# Altium schematic symbol library MCU_ST_STM32MP1.SchLib: 48 symbols (part 5 of 5)
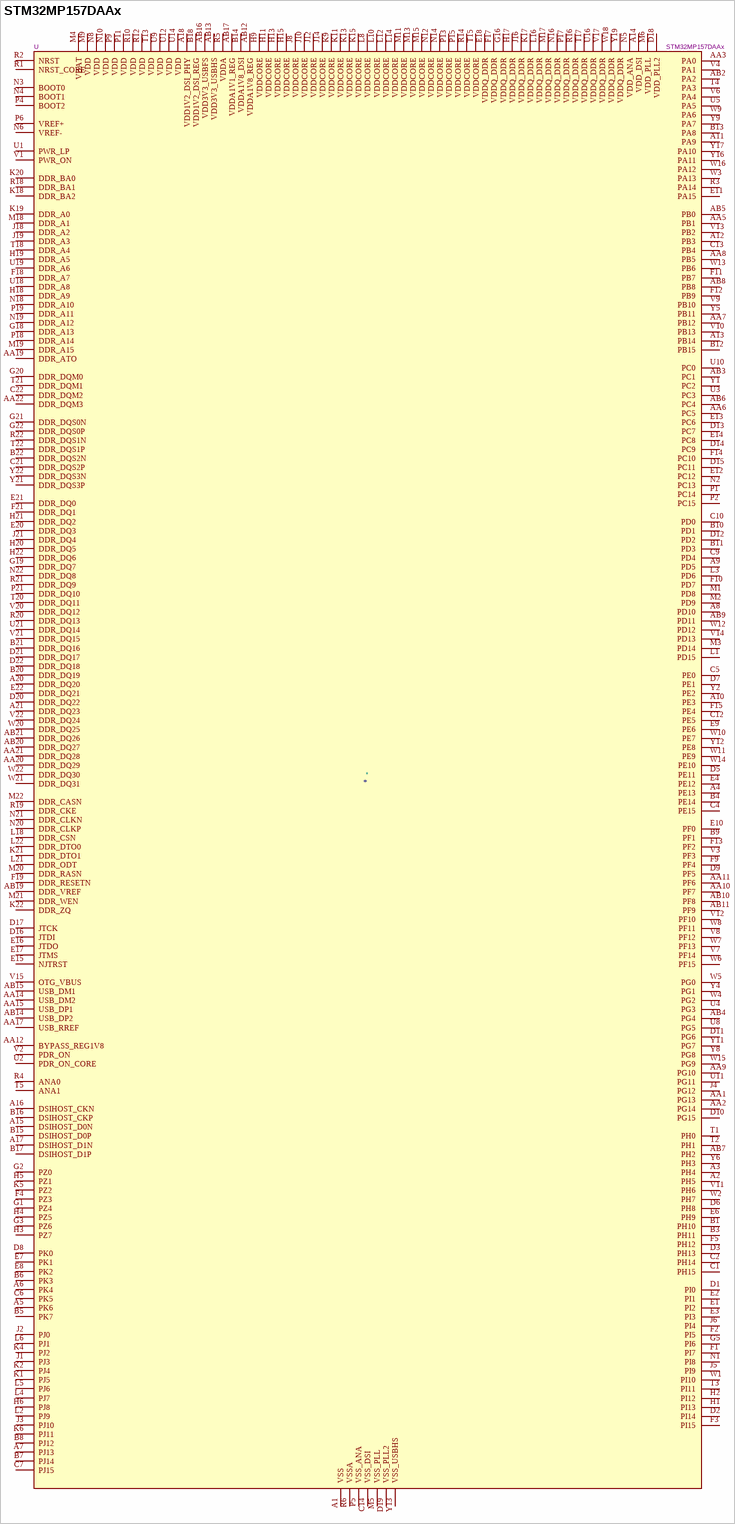
[diagram p39: symbol STM32MP157DAAx]

## STM32MP157DAAx
designator *  value STM32MP157DAAx  Reference: U
ki_keywords: Arm Cortex-A7 STM32MP1 STM32MP157; ki_description: STMicroelectronics Arm Cortex-A7 MCU, 0KB flash, 708KB RAM, 176 GPIO, LFBGA448; ki_fp_filters: *LFBGA*18x18mm*Layout22x22*P0.8mm*; Footprint: Package_BGA:ST_LFBGA-448_18x18mm_Layout22x22_P0.8mm; Datasheet: https://www.st.com/resource/en/datasheet/stm32mp157d.pdf
pins: A1 VSS, A2 PH5, A3 PH4, A4 PE13, A5 PK6, A6 PK4, A7 PJ13, A8 PD10, A9 PD5, A10 PE3, A11 PA9, A12 PB3, A13 PB14, A14 VDD_DSI, A15 DSIHOST_D0N, A16 DSIHOST_CKN, A17 DSIHOST_D1N, A18 VDD1V2_DSI_PHY, A19 VSS hidden, A20 DDR_DQ20, A21 DDR_DQ23, A22 VSS hidden, AA1 PG13, AA2 PG14, AA3 PA0, AA4 VSS hidden, AA5 PB1, AA6 PC5, AA7 PB12, AA8 PB5, AA9 PG10, AA10 PF7, AA11 PF6, AA12 BYPASS_REG1V8, AA13 VSS_USBHS hidden, AA14 USB_DM2, AA15 USB_DP1, AA16 VSS_USBHS hidden, AA17 USB_RREF, AA18 VSS hidden, AA19 DDR_ATO, AA20 DDR_DQ29, AA21 DDR_DQ28, AA22 DDR_DQM3, AB1 VSS hidden, AB2 PA2, AB3 PC1, AB4 PG4, AB5 PB0, AB6 PC4, AB7 PH2, AB8 PB8, AB9 PD11, AB10 PF8, AB11 PF9, AB12 VDDA1V8_REG, AB13 VDD3V3_USBHS, AB14 USB_DP2, AB15 USB_DM1, AB16 VDD3V3_USBFS, AB17 VDDA1V1_REG, AB18 VSS hidden, AB19 DDR_VREF, AB20 DDR_DQ27, AB21 DDR_DQ26, AB22 VSS hidden, B1 PH10, B2 VSS hidden, B3 PH11, B4 PE14, B5 PK7, B6 PK3, B7 PJ14, B8 PJ12, B9 PF1, B10 PD1, B11 PD3, B12 PB15, B13 PA8, B14 VDDA1V8_DSI, B15 DSIHOST_D0P, B16 DSIHOST_CKP, B17 DSIHOST_D1P, B18 VDD1V2_DSI_REG, B19 VSS hidden, B20 DDR_DQ19, B21 DDR_DQ16, B22 DDR_DQS2N, C1 PH15, C2 PH14, C3 VSS hidden, C4 PE15, C5 PE0, C6 PK5, C7 PJ15, C8 VSS hidden, C9 PD4, C10 PD0, C11 VSS hidden, C12 PE5, C13 PB4, C14 VSS_DSI, C15 VSS_DSI hidden, C16 VSS_DSI hidden, C17 VSS_DSI hidden, C18 VSS_DSI hidden, C19 VSS hidden, C20 VSS hidden, C21 DDR_DQS2P, C22 DDR_DQM2, D1 PI0, D2 PI14, D3 PH13, D4 VSS hidden, D5 PE11, D6 PH8, D7 PE1, D8 PK0, D9 PF5, D10 PG15, D11 PG6, D12 PD2, D13 PC7, D14 PC9, D15 PC11, D16 JTDI, D17 JTCK, D18 VDD_PLL2, D19 VSS_PLL2, D20 DDR_DQ22, D21 DDR_DQ17, D22 DDR_DQ18, E1 PI2, E2 PI1, E3 PI3, E4 PE12, E5 VSS hidden, E6 PH9, E7 PK1, E8 PK2, E9 PE6, E10 PF0, E11 PA15, E12 PC12, E13 PC6, E14 PC8, E15 NJTRST, E16 JTDO, E17 JTMS, E18 VDDQ_DDR, E19 VSS hidden, E20 DDR_DQ3, E21 DDR_DQ0, E22 DDR_DQ21, F1 PI7, F2 PI5, F3 PI15, F4 PZ3, F5 PH12, F6 VSS hidden, F7 VSS hidden, F8 VSS hidden, F9 PF4, F10 PD7, F11 PB7, F12 PB9, F13 PF2, F14 PC10, F15 PE4, F16 VSS hidden, F17 VDDQ_DDR, F18 DDR_A7, F19 DDR_RESETN, F20 VSS hidden, F21 DDR_DQ1, G1 PZ4, G2 PZ0, G3 PZ6, G4 VSS hidden, G5 PI6, G6 VSS hidden, G8 VSS hidden, G10 VSS hidden, G12 VSS hidden, G14 VSS hidden, G16 VDDQ_DDR, G17 VSS hidden, G18 DDR_A13, G19 DDR_DQ7, G20 DDR_DQM0, G21 DDR_DQS0N, G22 DDR_DQS0P, H1 PI13, H2 PI12, H3 PZ7, H4 PZ5, H5 PZ1, H6 PJ8, H7 VSS hidden, H9 VDDCORE, H11 VDDCORE, H13 VDDCORE, H15 VDDCORE, H17 VDDQ_DDR, H18 DDR_A9, H19 DDR_A5, H20 DDR_DQ5, H21 DDR_DQ2, H22 DDR_DQ6, J1 PJ3, J2 PJ0, J3 PJ10, J4 PG12, J5 PI9, J6 PI4, J8 VDDCORE, J9 VSS hidden, J10 VDDCORE, J11 VSS hidden, J12 VDDCORE, J13 VSS hidden, J14 VDDCORE, J16 VDDQ_DDR, J17 VSS hidden, J18 DDR_A2, J19 DDR_A3, J20 VSS hidden, J21 DDR_DQ4, K1 PJ5, K2 PJ4, K3 VSS hidden, K4 PJ2, K5 PZ2, K6 PJ11, K7 VSS hidden, K9 VDDCORE, K10 VSS hidden, K11 VDDCORE, K12 VSS hidden, K13 VDDCORE, K14 VSS hidden, K15 VDDCORE, K17 VDDQ_DDR, K18 DDR_BA2, K19 DDR_A0, K20 DDR_BA0, K21 DDR_DTO1, K22 DDR_ZQ, L1 PD15, L2 PJ9, L3 PD6, L4 PJ7, L5 PJ6, L6 PJ1, L8 VDDCORE, L9 VSS hidden, L10 VDDCORE, L11 VSS hidden, L12 VDDCORE, L13 VSS hidden, L14 VDDCORE, L16 VDDQ_DDR, L17 VSS hidden, L18 DDR_CSN, L19 VSS hidden, L20 VSS hidden, L21 DDR_ODT, L22 DDR_DTO0, M1 PD8, M2 PD9, M3 PD14, M4 VBAT, M5 VSS_PLL, M6 VDD_PLL, M7 VSS hidden, M9 VDD, M10 VSS hidden, M11 VDDCORE, M12 VSS hidden, M13 VDDCORE, M14 VSS hidden, M15 VDDCORE, M17 VDDQ_DDR, M18 DDR_A1, M19 DDR_A15, M20 DDR_RASN, M21 DDR_WEN, M22 DDR_CASN, N1 PI8, N2 PC13, N3 BOOT0, N4 BOOT1, N5 VDD_ANA, N6 VREF-, N8 VDD, N9 VSS hidden, N10 VDD, N11 VSS hidden, N12 VDDCORE, N13 VSS hidden, N14 VDDCORE, N16 VDDQ_DDR, N17 VSS hidden, N18 DDR_A10, N19 DDR_A12, N20 DDR_CLKP, N21 DDR_CLKN, N22 DDR_DQ8, P1 PC14, P2 PC15, P3 VSS hidden, P4 BOOT2, P5 VSS_ANA, P6 VREF+, P7 VSS hidden, P9 VDD, P10 VSS hidden, P11 VDD, P12 VSS hidden, P13 VDDCORE, P14 VSS hidden, P15 VDDCORE, P17 VDDQ_DDR, P18 DDR_A14, P19 DDR_A11, P20 VSS hidden, P21 DDR_DQ10, R1 NRST_CORE, R2 NRST, R3 PA14, R4 ANA0, R5 VDDA, R6 VSSA, R8 VSS hidden, R10 VDD, R12 VDD, R14 VDDCORE, R16 VDDQ_DDR, R17 VSS hidden, R18 DDR_BA1, R19 DDR_CKE, R20 DDR_DQ13, R21 DDR_DQ9, R22 DDR_DQS1N, T1 PH0, T2 PH1, T3 PI11, T4 PA3, T5 ANA1, T6 VSSA hidden, T7 VSS hidden, T9 VSS hidden, T11 VSS hidden, T13 VDD, T15 VDDCORE, T17 VDDQ_DDR, T18 DDR_A4, T19 VSS hidden, T20 DDR_DQ11, T21 DDR_DQM1, T22 DDR_DQS1P, U1 PWR_LP, U2 PDR_ON_CORE, U3 PC3, U4 PG3, U5 PA5, U6 VSSA hidden, U7 VSS hidden, U8 PG5, U9 VDD, U10 PC0, U11 PG11, U12 VDD, U13 VSS hidden, U14 VDD, U15 VSS hidden, U16 VDDQ_DDR, U17 VSS hidden, U18 DDR_A8, U19 DDR_A6, U20 VSS hidden, U21 DDR_DQ14, V1 PWR_ON, V2 PDR_ON, V3 PF3, V4 PA1, V5 VSS hidden, V6 PA4, V7 PF14, V8 PF12, V9 PB10, V10 PB13, V11 PH6, V12 PF10, V13 PB2, V14 PD13, V15 OTG_VBUS, V16 VSS hidden, V17 VDDQ_DDR, V18 VSS hidden, V19 VSS hidden, V20 DDR_DQ12, V21 DDR_DQ15, V22 DDR_DQ24, W1 PI10, W2 PH7, W3 PA13, W4 PG2, W5 PG0, W6 PF15, W7 PF13, W8 PF11, W9 PA6, W10 PE7, W11 PE9, W12 PD12, W13 PB6, W14 PE10, W15 PG9, W16 PA12, W17 VSS hidden, W18 VDDQ_DDR, W19 VSS hidden, W20 DDR_DQ25, W21 DDR_DQ31, W22 DDR_DQ30, Y1 PC2, Y2 PE2, Y3 VSS hidden, Y4 PG1, Y5 PB11, Y6 PH3, Y7 VSS hidden, Y8 PG8, Y9 PA7, Y10 VSS hidden, Y11 PG7, Y12 PE8, Y13 VSS_USBHS, Y14 VSS_USBHS hidden, Y15 VSS_USBHS hidden, Y16 PA11, Y17 PA10, Y18 VSS hidden, Y19 VDDQ_DDR, Y20 VSS hidden, Y21 DDR_DQS3P, Y22 DDR_DQS3N

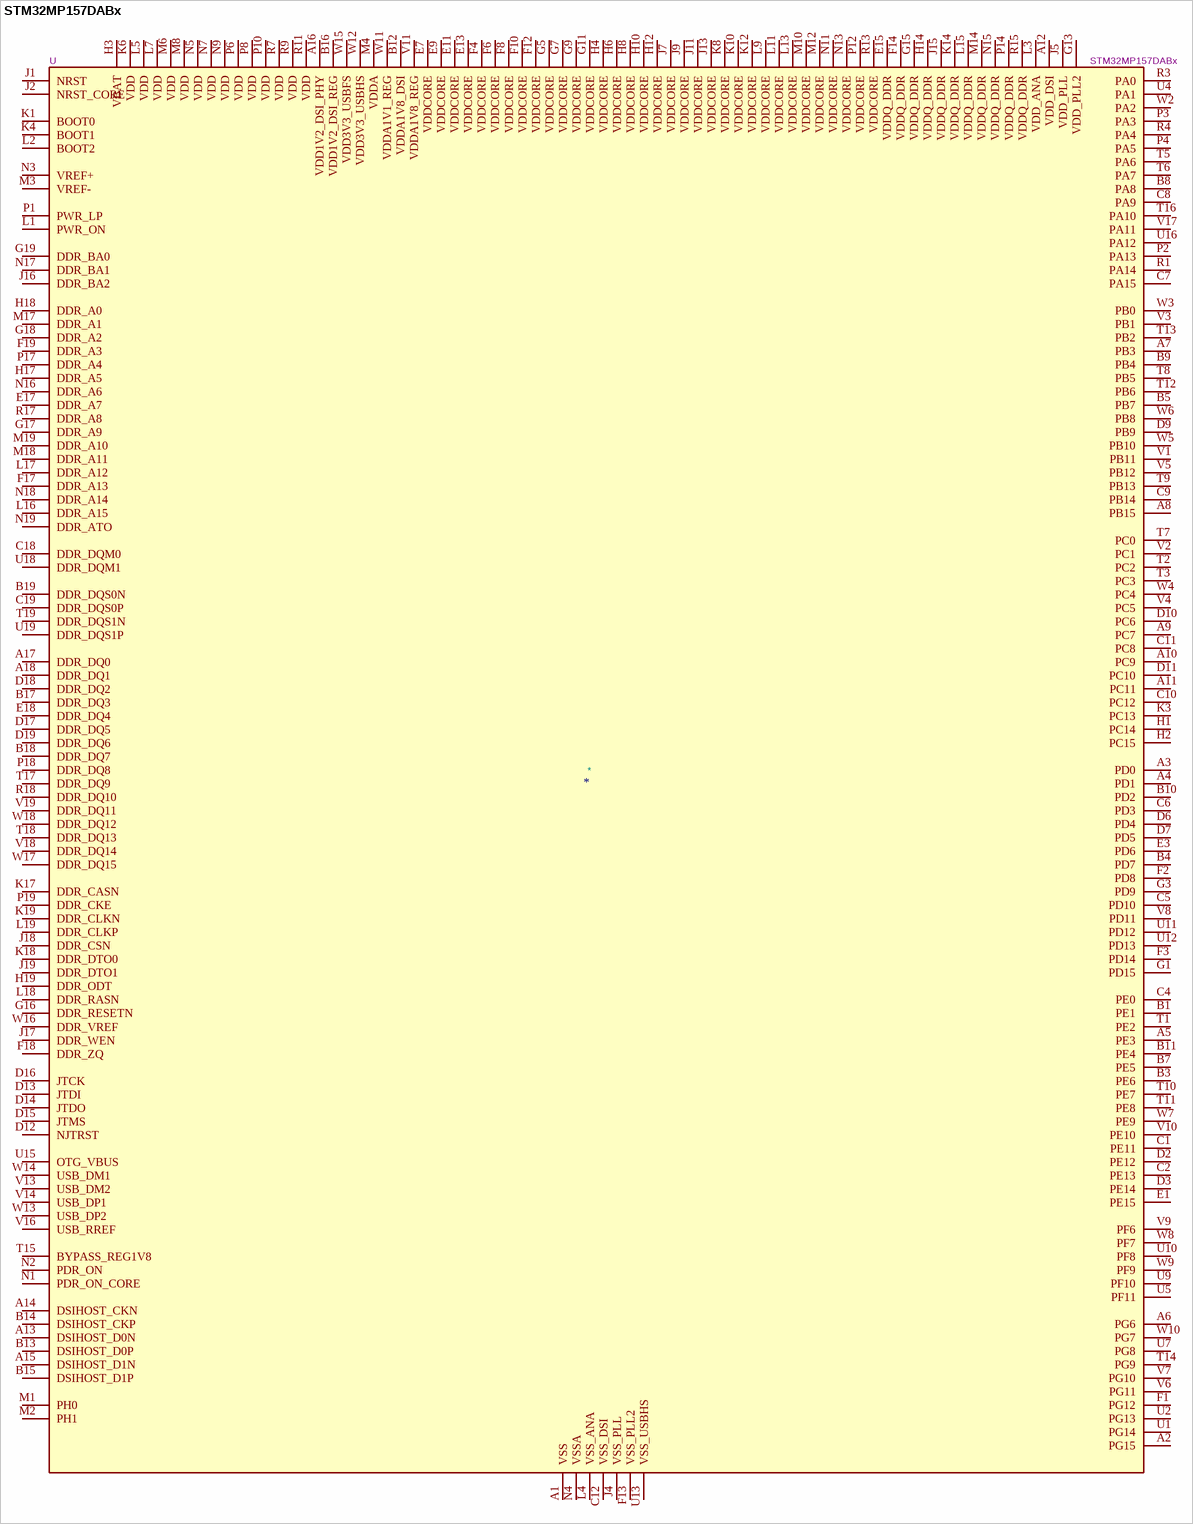
[diagram p31: symbol STM32MP157DABx]

## STM32MP157DABx
designator *  value STM32MP157DABx  Reference: U
ki_keywords: Arm Cortex-A7 STM32MP1 STM32MP157; ki_description: STMicroelectronics Arm Cortex-A7 MCU, 0KB flash, 708KB RAM, 98 GPIO, LFBGA354; ki_fp_filters: *LFBGA*16x16mm*Layout19x19*P0.8mm*; Footprint: Package_BGA:ST_LFBGA-354_16x16mm_Layout19x19_P0.8mm; Datasheet: https://www.st.com/resource/en/datasheet/stm32mp157d.pdf
pins: A1 VSS, A2 PG15, A3 PD0, A4 PD1, A5 PE3, A6 PG6, A7 PB3, A8 PB15, A9 PC7, A10 PC9, A11 PC11, A12 VDD_DSI, A13 DSIHOST_D0N, A14 DSIHOST_CKN, A15 DSIHOST_D1N, A16 VDD1V2_DSI_PHY, A17 DDR_DQ0, A18 DDR_DQ1, A19 VSS hidden, B1 PE1, B2 VSS hidden, B3 PE6, B4 PD7, B5 PB7, B6 VSS hidden, B7 PE5, B8 PA8, B9 PB4, B10 PD2, B11 PE4, B12 VDDA1V8_DSI, B13 DSIHOST_D0P, B14 DSIHOST_CKP, B15 DSIHOST_D1P, B16 VDD1V2_DSI_REG, B17 DDR_DQ3, B18 DDR_DQ7, B19 DDR_DQS0N, C1 PE11, C2 PE13, C3 VSS hidden, C4 PE0, C5 PD10, C6 PD3, C7 PA15, C8 PA9, C9 PB14, C10 PC12, C11 PC8, C12 VSS_DSI, C13 VSS_DSI hidden, C14 VSS_DSI hidden, C15 VSS_DSI hidden, C16 VSS_DSI hidden, C17 VSS hidden, C18 DDR_DQM0, C19 DDR_DQS0P, D1 VSS hidden, D2 PE12, D3 PE14, D4 VSS hidden, D5 VSS hidden, D6 PD4, D7 PD5, D8 VSS hidden, D9 PB9, D10 PC6, D11 PC10, D12 NJTRST, D13 JTDI, D14 JTDO, D15 JTMS, D16 JTCK, D17 DDR_DQ5, D18 DDR_DQ2, D19 DDR_DQ6, E1 PE15, E2 VSS hidden, E3 PD6, E4 VSS hidden, E5 VSS hidden, E6 VSS hidden, E7 VDDCORE, E8 VSS hidden, E9 VDDCORE, E10 VSS hidden, E11 VDDCORE, E12 VSS hidden, E13 VDDCORE, E14 VSS hidden, E15 VDDQ_DDR, E16 VSS hidden, E17 DDR_A7, E18 DDR_DQ4, F1 PG12, F2 PD8, F3 PD14, F4 VDDCORE, F5 VSS hidden, F6 VDDCORE, F7 VSS hidden, F8 VDDCORE, F9 VSS hidden, F10 VDDCORE, F11 VSS hidden, F12 VDDCORE, F13 VSS_PLL2, F14 VDDQ_DDR, F15 VSS hidden, F17 DDR_A13, F18 DDR_ZQ, F19 DDR_A3, G1 PD15, G2 VSS hidden, G3 PD9, G4 VSS hidden, G5 VDDCORE, G6 VSS hidden, G7 VDDCORE, G8 VSS hidden, G9 VDDCORE, G10 VSS hidden, G11 VDDCORE, G12 VSS hidden, G13 VDD_PLL2, G14 VSS hidden, G15 VDDQ_DDR, G16 DDR_RESETN, G17 DDR_A9, G18 DDR_A2, G19 DDR_BA0, H1 PC14, H2 PC15, H3 VBAT, H4 VDDCORE, H5 VSS hidden, H6 VDDCORE, H7 VSS hidden, H8 VDDCORE, H9 VSS hidden, H10 VDDCORE, H11 VSS hidden, H12 VDDCORE, H13 VSS hidden, H14 VDDQ_DDR, H15 VSS hidden, H17 DDR_A5, H18 DDR_A0, H19 DDR_ODT, J1 NRST, J2 NRST_CORE, J3 VSS hidden, J4 VSS_PLL, J5 VDD_PLL, J6 VSS hidden, J7 VDDCORE, J8 VSS hidden, J9 VDDCORE, J10 VSS hidden, J11 VDDCORE, J12 VSS hidden, J13 VDDCORE, J14 VSS hidden, J15 VDDQ_DDR, J16 DDR_BA2, J17 DDR_WEN, J18 DDR_CSN, J19 DDR_DTO1, K1 BOOT0, K2 VSS hidden, K3 PC13, K4 BOOT1, K5 VSS hidden, K6 VDD, K7 VSS hidden, K8 VDDCORE, K9 VSS hidden, K10 VDDCORE, K11 VSS hidden, K12 VDDCORE, K13 VSS hidden, K14 VDDQ_DDR, K15 VSS hidden, K17 DDR_CASN, K18 DDR_DTO0, K19 DDR_CLKN, L1 PWR_ON, L2 BOOT2, L3 VDD_ANA, L4 VSS_ANA, L5 VDD, L6 VSS hidden, L7 VDD, L8 VSS hidden, L9 VDDCORE, L10 VSS hidden, L11 VDDCORE, L12 VSS hidden, L13 VDDCORE, L14 VSS hidden, L15 VDDQ_DDR, L16 DDR_A15, L17 DDR_A12, L18 DDR_RASN, L19 DDR_CLKP, M1 PH0, M2 PH1, M3 VREF-, M4 VDDA, M5 VSS hidden, M6 VDD, M7 VSS hidden, M8 VDD, M9 VSS hidden, M10 VDDCORE, M11 VSS hidden, M12 VDDCORE, M13 VSS hidden, M14 VDDQ_DDR, M15 VSS hidden, M17 DDR_A1, M18 DDR_A11, M19 DDR_A10, N1 PDR_ON_CORE, N2 PDR_ON, N3 VREF+, N4 VSSA, N5 VDD, N6 VSS hidden, N7 VDD, N8 VSS hidden, N9 VDD, N10 VSS hidden, N11 VDDCORE, N12 VSS hidden, N13 VDDCORE, N14 VSS hidden, N15 VDDQ_DDR, N16 DDR_A6, N17 DDR_BA1, N18 DDR_A14, N19 DDR_ATO, P1 PWR_LP, P2 PA13, P3 PA3, P4 PA5, P5 VSSA hidden, P6 VDD, P7 VSS hidden, P8 VDD, P9 VSS hidden, P10 VDD, P11 VSS hidden, P12 VDDCORE, P13 VSS hidden, P14 VDDQ_DDR, P15 VSS hidden, P17 DDR_A4, P18 DDR_DQ8, P19 DDR_CKE, R1 PA14, R2 VSS hidden, R3 PA0, R4 PA4, R5 VSSA hidden, R6 VSS hidden, R7 VDD, R8 VSS hidden, R9 VDD, R10 VSS hidden, R11 VDD, R12 VSS hidden, R13 VDDCORE, R14 VSS hidden, R15 VDDQ_DDR, R16 VSS hidden, R17 DDR_A8, R18 DDR_DQ10, T1 PE2, T2 PC2, T3 PC3, T4 VSS hidden, T5 PA6, T6 PA7, T7 PC0, T8 PB5, T9 PB13, T10 PE7, T11 PE8, T12 PB6, T13 PB2, T14 PG9, T15 BYPASS_REG1V8, T16 PA10, T17 DDR_DQ9, T18 DDR_DQ13, T19 DDR_DQS1N, U1 PG14, U2 PG13, U3 VSS hidden, U4 PA1, U5 PF11, U6 VSS hidden, U7 PG8, U8 VSS hidden, U9 PF10, U10 PF8, U11 PD12, U12 PD13, U13 VSS_USBHS, U14 VSS_USBHS hidden, U15 OTG_VBUS, U16 PA12, U17 VSS hidden, U18 DDR_DQM1, U19 DDR_DQS1P, V1 PB11, V2 PC1, V3 PB1, V4 PC5, V5 PB12, V6 PG11, V7 PG10, V8 PD11, V9 PF6, V10 PE10, V11 VDDA1V8_REG, V12 VSS_USBHS hidden, V13 USB_DM2, V14 USB_DP1, V15 VSS_USBHS hidden, V16 USB_RREF, V17 PA11, V18 DDR_DQ14, V19 DDR_DQ11, W1 VSS hidden, W2 PA2, W3 PB0, W4 PC4, W5 PB10, W6 PB8, W7 PE9, W8 PF7, W9 PF9, W10 PG7, W11 VDDA1V1_REG, W12 VDD3V3_USBHS, W13 USB_DP2, W14 USB_DM1, W15 VDD3V3_USBFS, W16 DDR_VREF, W17 DDR_DQ15, W18 DDR_DQ12, W19 VSS hidden

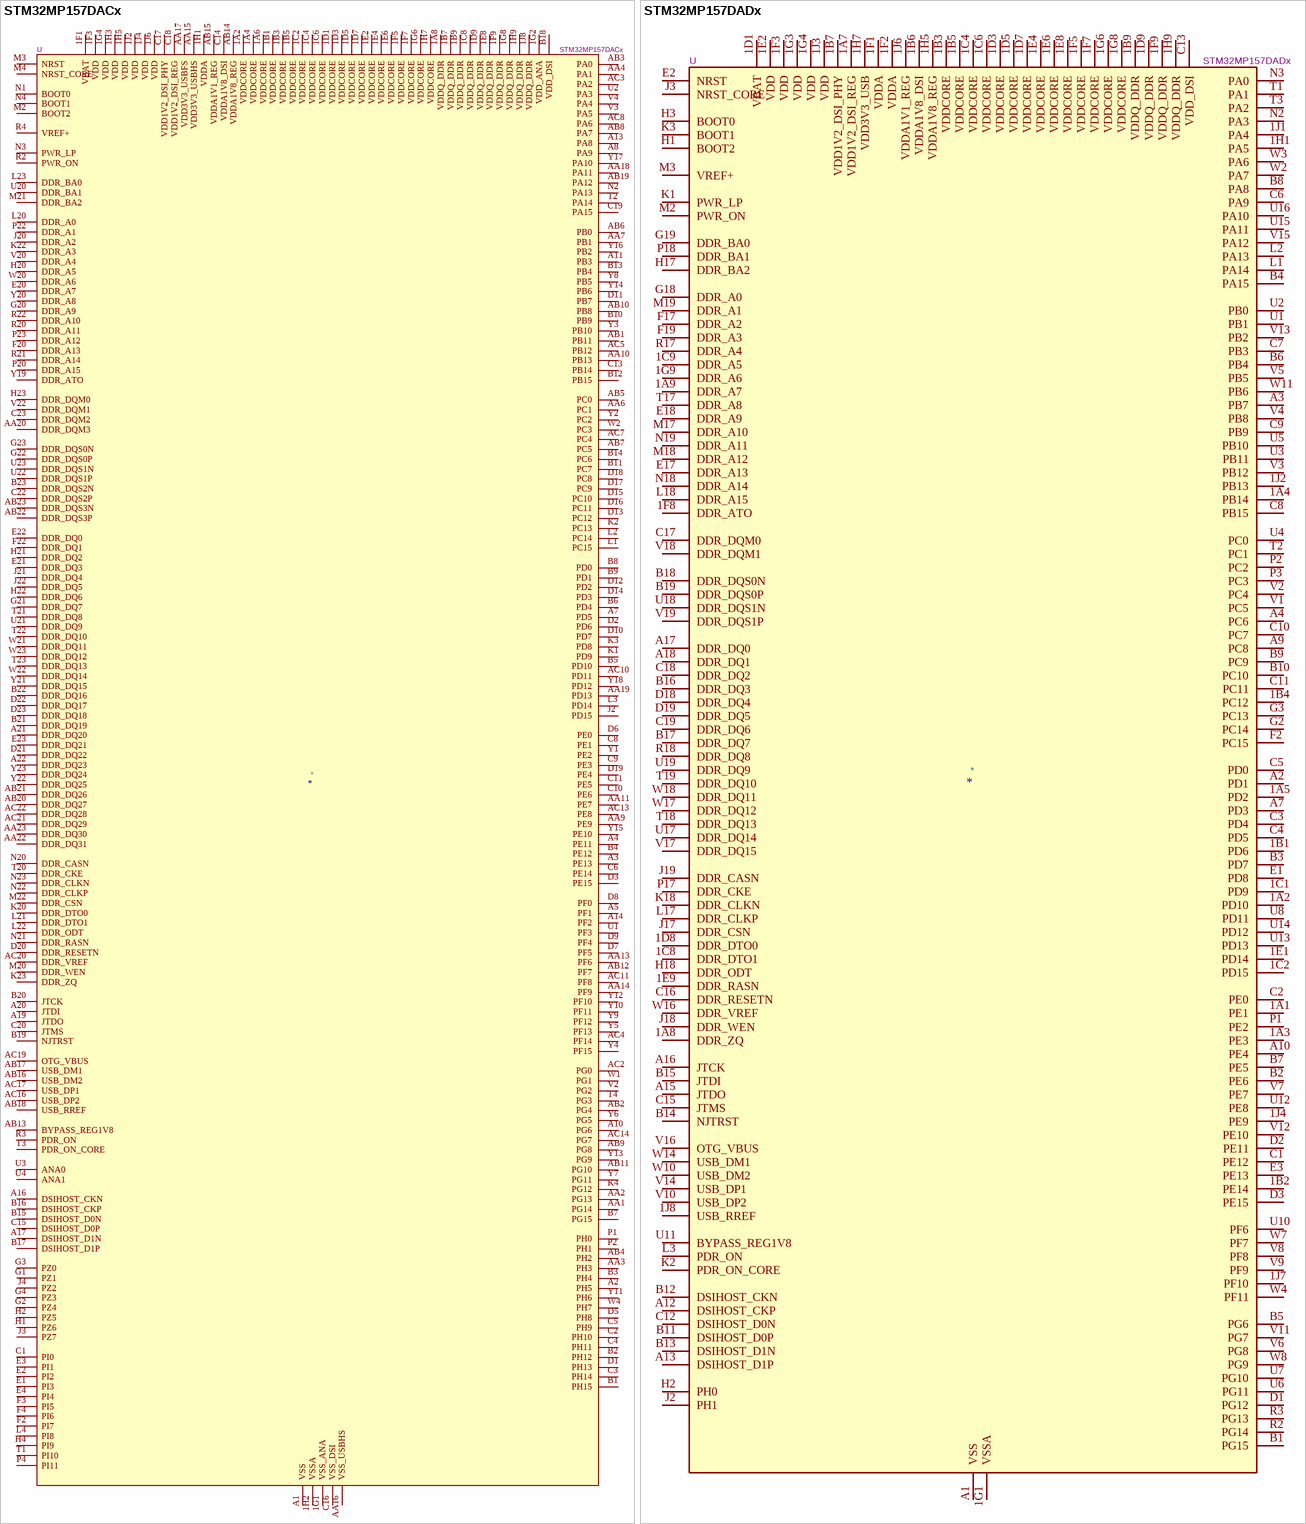
[diagram p32: symbols STM32MP157DACx to STM32MP157DADx]

## STM32MP157DACx
designator *  value STM32MP157DACx  Reference: U
ki_keywords: Arm Cortex-A7 STM32MP1 STM32MP157; ki_description: STMicroelectronics Arm Cortex-A7 MCU, 0KB flash, 708KB RAM, 148 GPIO, TFBGA361; ki_fp_filters: *TFBGA*12x12mm*Layout23x23*P0.5mmP0.65mm*; Footprint: Package_BGA:ST_TFBGA-361_12x12mm_Layout23x23_P0.5mmP0.65mm; Datasheet: https://www.st.com/resource/en/datasheet/stm32mp157d.pdf
pins: 1A2 VDDCORE, 1A3 VSS hidden, 1A4 VDDCORE, 1A5 VSS hidden, 1A6 VDDCORE, 1A7 VSS hidden, 1A8 VDDQ_DDR, 1B1 VDDCORE, 1B2 VSS hidden, 1B3 VDDCORE, 1B4 VSS hidden, 1B5 VDDCORE, 1B6 VSS hidden, 1B7 VDDQ_DDR, 1B8 VSS hidden, 1B9 VDDQ_DDR, 1C1 VSS hidden, 1C2 VDDCORE, 1C3 VSS hidden, 1C4 VDDCORE, 1C5 VSS hidden, 1C6 VDDCORE, 1C7 VSS hidden, 1C8 VDDQ_DDR, 1C9 VSS hidden, 1D1 VDDCORE, 1D2 VSS hidden, 1D3 VDDCORE, 1D4 VSS hidden, 1D5 VDDCORE, 1D6 VSS hidden, 1D7 VDDCORE, 1D8 VSS hidden, 1D9 VDDQ_DDR, 1E1 VSS hidden, 1E2 VDDCORE, 1E3 VSS hidden, 1E4 VDDCORE, 1E5 VSS hidden, 1E6 VDDCORE, 1E7 VSS hidden, 1E8 VDDQ_DDR, 1E9 VSS hidden, 1F1 VBAT, 1F2 VSS hidden, 1F3 VDD, 1F4 VSS hidden, 1F5 VDDCORE, 1F6 VSS hidden, 1F7 VDDCORE, 1F8 VSS hidden, 1F9 VDDQ_DDR, 1G1 VSS_ANA, 1G2 VDD_ANA, 1G3 VSS hidden, 1G4 VDD, 1G5 VSS hidden, 1G6 VDDCORE, 1G7 VSS hidden, 1G8 VDDQ_DDR, 1G9 VSS hidden, 1H1 VDDA, 1H2 VSSA, 1H3 VDD, 1H4 VSS hidden, 1H5 VDD, 1H6 VSS hidden, 1H7 VDDCORE, 1H8 VSS hidden, 1H9 VDDQ_DDR, 1J2 VDD, 1J3 VSS hidden, 1J4 VDD, 1J5 VSS hidden, 1J6 VDD, 1J7 VSS hidden, 1J8 VDDQ_DDR, A1 VSS, A2 PH5, A3 PE13, A4 PE11, A5 PF1, A7 PD5, A8 PA9, A10 PG6, A11 PB3, A13 PA8, A14 PF2, A16 DSIHOST_CKN, A17 DSIHOST_D1N, A19 JTDO, A20 JTDI, A21 DDR_DQ20, A22 DDR_DQ23, A23 VSS hidden, AA1 PG14, AA2 PG13, AA3 PH3, AA4 PA1, AA5 VSS hidden, AA6 PC1, AA7 PB1, AA8 VSS hidden, AA9 PE9, AA10 PB13, AA11 PE7, AA12 VSS hidden, AA13 PF6, AA14 PF9, AA15 VDD3V3_USBHS, AA16 VSS_USBHS, AA17 VDD3V3_USBFS, AA18 PA11, AA19 PD13, AA20 DDR_DQM3, AA21 VSS hidden, AA22 DDR_DQ31, AA23 DDR_DQ30, AB1 PB11, AB2 PG4, AB3 PA0, AB4 PH2, AB5 PC0, AB6 PB0, AB7 PC5, AB8 PA7, AB9 PG8, AB10 PB8, AB11 PG10, AB12 PF7, AB13 BYPASS_REG1V8, AB14 VDDA1V8_REG, AB15 VDDA1V1_REG, AB16 USB_DM2, AB17 USB_DM1, AB18 USB_RREF, AB19 PA12, AB20 DDR_DQ27, AB21 DDR_DQ26, AB22 DDR_DQS3P, AB23 DDR_DQS3N, AC1 VSS hidden, AC2 PG0, AC3 PA2, AC4 PF14, AC5 PB12, AC7 PC4, AC8 PA6, AC10 PD11, AC11 PF8, AC13 PE8, AC14 PG7, AC16 USB_DP2, AC17 USB_DP1, AC19 OTG_VBUS, AC20 DDR_VREF, AC21 DDR_DQ29, AC22 DDR_DQ28, AC23 VSS hidden, B1 PH15, B2 PH12, B3 PH4, B4 PE12, B5 PD10, B6 PD4, B7 PG15, B8 PD0, B9 PD1, B10 PB9, B11 PC7, B12 PB15, B13 PB4, B14 PC6, B15 DSIHOST_D0N, B16 DSIHOST_CKP, B17 DSIHOST_D1P, B18 VDD_DSI, B19 NJTRST, B20 JTCK, B21 DDR_DQ19, B22 DDR_DQ16, B23 DDR_DQS2N, C1 PI0, C2 PH10, C3 PH14, C4 PH11, C5 PH9, C6 PE14, C7 VSS hidden, C8 PE1, C9 PE3, C10 PE6, C11 PE5, C12 VSS hidden, C13 PB14, C14 VDDA1V8_DSI, C15 DSIHOST_D0P, C16 VSS_DSI, C17 VDD1V2_DSI_PHY, C18 VDD1V2_DSI_REG, C19 PA15, C20 JTMS, C21 VSS hidden, C22 DDR_DQS2P, C23 DDR_DQM2, D1 PH13, D2 PD6, D3 PE15, D4 VSS hidden, D5 PH8, D6 PE0, D7 PF5, D8 PF0, D9 PF4, D10 PD7, D11 PB7, D12 PD2, D13 PC12, D14 PD3, D15 PC10, D16 PC11, D17 PC9, D18 PC8, D19 PE4, D20 DDR_RESETN, D21 DDR_DQ22, D22 DDR_DQ17, D23 DDR_DQ18, E1 PI3, E2 PI2, E3 PI1, E4 PI4, E20 DDR_A7, E21 DDR_DQ3, E22 DDR_DQ0, E23 DDR_DQ21, F2 PI7, F3 PI5, F4 PI6, F20 DDR_A13, F21 VSS hidden, F22 DDR_DQ1, G1 PZ1, G2 PZ4, G3 PZ0, G4 PZ3, G20 DDR_A9, G21 DDR_DQ7, G22 DDR_DQS0P, G23 DDR_DQS0N, H1 PZ6, H2 PZ5, H3 VSS hidden, H4 PI9, H20 DDR_A5, H21 DDR_DQ2, H22 DDR_DQ6, H23 DDR_DQM0, J2 PD15, J3 PZ7, J4 PZ2, J20 DDR_A2, J21 DDR_DQ4, J22 DDR_DQ5, K1 PD9, K2 PC13, K3 PD8, K4 PG12, K20 DDR_DTO0, K21 VSS hidden, K22 DDR_A3, K23 DDR_ZQ, L1 PC15, L2 PC14, L3 PD14, L4 PI8, L20 DDR_A0, L21 DDR_DTO1, L22 DDR_ODT, L23 DDR_BA0, M2 BOOT2, M3 NRST, M4 NRST_CORE, M20 DDR_WEN, M21 DDR_BA2, M22 DDR_CSN, N1 BOOT0, N2 PA13, N3 PWR_LP, N4 BOOT1, N20 DDR_CASN, N21 DDR_RASN, N22 DDR_CLKP, N23 DDR_CLKN, P1 PH0, P2 PH1, P3 VSS hidden, P4 PI11, P20 DDR_A15, P21 VSS hidden, P22 DDR_A1, P23 DDR_A12, R2 PWR_ON, R3 PDR_ON, R4 VREF+, R20 DDR_A11, R21 DDR_A14, R22 DDR_A10, T1 PI10, T2 PA14, T3 PDR_ON_CORE, T4 PG3, T20 DDR_CKE, T21 DDR_DQ8, T22 DDR_DQ10, T23 DDR_DQ13, U1 PF3, U2 PA3, U3 ANA0, U4 ANA1, U20 DDR_BA1, U21 DDR_DQ9, U22 DDR_DQS1P, U23 DDR_DQS1N, V2 PG2, V3 PA5, V4 PA4, V20 DDR_A4, V21 VSS hidden, V22 DDR_DQM1, W1 PG1, W2 PC3, W3 VSS hidden, W4 PH7, W20 DDR_A6, W21 DDR_DQ11, W22 DDR_DQ14, W23 DDR_DQ12, Y1 PE2, Y2 PC2, Y3 PB10, Y4 PF15, Y5 PF13, Y6 PG5, Y7 PG11, Y8 PB5, Y9 PF12, Y10 PF11, Y11 PH6, Y12 PF10, Y13 PG9, Y14 PB6, Y15 PE10, Y16 PB2, Y17 PA10, Y18 PD12, Y19 DDR_ATO, Y20 DDR_A8, Y21 DDR_DQ15, Y22 DDR_DQ25, Y23 DDR_DQ24

## STM32MP157DADx
designator *  value STM32MP157DADx  Reference: U
ki_keywords: Arm Cortex-A7 STM32MP1 STM32MP157; ki_description: STMicroelectronics Arm Cortex-A7 MCU, 0KB flash, 708KB RAM, 98 GPIO, TFBGA257; ki_fp_filters: *TFBGA*10x10mm*Layout19x19*P0.5mmP0.65mm*; Footprint: Package_BGA:ST_TFBGA-257_10x10mm_Layout19x19_P0.5mmP0.65mm; Datasheet: https://www.st.com/resource/en/datasheet/stm32mp157d.pdf
pins: 1A1 PE1, 1A2 PD10, 1A3 PE3, 1A4 PB14, 1A5 PD2, 1A6 VSS hidden, 1A7 VDD1V2_DSI_REG, 1A8 DDR_ZQ, 1A9 DDR_A7, 1B1 PD6, 1B2 PE14, 1B3 VDDCORE, 1B4 PC12, 1B5 VDDCORE, 1B6 VDDA1V8_DSI, 1B7 VDD1V2_DSI_PHY, 1B8 VSS hidden, 1B9 VDDQ_DDR, 1C1 PD9, 1C2 PD15, 1C3 VSS hidden, 1C4 VDDCORE, 1C5 VSS hidden, 1C6 VDDCORE, 1C7 VSS hidden, 1C8 DDR_DTO1, 1C9 DDR_A5, 1D1 VBAT, 1D2 VSS hidden, 1D3 VDDCORE, 1D4 VSS hidden, 1D5 VDDCORE, 1D6 VSS hidden, 1D7 VDDCORE, 1D8 DDR_DTO0, 1D9 VDDQ_DDR, 1E1 PD14, 1E2 VDD, 1E3 VSS hidden, 1E4 VDDCORE, 1E5 VSS hidden, 1E6 VDDCORE, 1E7 VSS hidden, 1E8 VDDCORE, 1E9 DDR_RASN, 1F1 VDDA, 1F2 VDDA, 1F3 VDD, 1F4 VSS hidden, 1F5 VDDCORE, 1F6 VSS hidden, 1F7 VDDCORE, 1F8 DDR_ATO, 1F9 VDDQ_DDR, 1G1 VSSA, 1G2 VSS hidden, 1G3 VDD, 1G4 VDD, 1G5 VSS hidden, 1G6 VDDCORE, 1G7 VSS hidden, 1G8 VDDCORE, 1G9 DDR_A6, 1H1 PA5, 1H2 VSS hidden, 1H3 VSS hidden, 1H4 VSS hidden, 1H5 VDDA1V8_REG, 1H6 VSS hidden, 1H7 VDD3V3_USB, 1H8 VSS hidden, 1H9 VDDQ_DDR, 1J1 PA4, 1J2 PB13, 1J3 VDD, 1J4 PE9, 1J5 VSS hidden, 1J6 VDDA1V1_REG, 1J7 PF10, 1J8 USB_RREF, 1J9 VSS hidden, A1 VSS, A2 PD1, A3 PB7, A4 PC6, A6 VSS hidden, A7 PD3, A9 PC8, A10 PE4, A12 DSIHOST_CKP, A13 DSIHOST_D1P, A15 JTDO, A16 JTCK, A17 DDR_DQ0, A18 DDR_DQ1, A19 VSS hidden, B1 PG15, B2 PE6, B3 PD7, B4 PA15, B5 PG6, B6 PB4, B7 PE5, B8 PA8, B9 PC9, B10 PC10, B11 DSIHOST_D0P, B12 DSIHOST_CKN, B13 DSIHOST_D1N, B14 NJTRST, B15 JTDI, B16 DDR_DQ3, B17 DDR_DQ7, B18 DDR_DQS0N, B19 DDR_DQS0P, C1 PE12, C2 PE0, C3 PD4, C4 PD5, C5 PD0, C6 PA9, C7 PB3, C8 PB15, C9 PB9, C10 PC7, C11 PC11, C12 DSIHOST_D0N, C13 VDD_DSI, C14 VSS hidden, C15 JTMS, C16 DDR_RESETN, C17 DDR_DQM0, C18 DDR_DQ2, C19 DDR_DQ6, D1 PG12, D2 PE11, D3 PE15, D17 VSS hidden, D18 DDR_DQ4, D19 DDR_DQ5, E1 PD8, E2 NRST, E3 PE13, E17 DDR_A13, E18 DDR_A9, F2 PC15, F3 VSS hidden, F17 DDR_A2, F18 VSS hidden, F19 DDR_A3, G1 VSS hidden, G2 PC14, G3 PC13, G17 VSS hidden, G18 DDR_A0, G19 DDR_BA0, H1 BOOT2, H2 PH0, H3 BOOT0, H17 DDR_BA2, H18 DDR_ODT, J2 PH1, J3 NRST_CORE, J17 DDR_CSN, J18 DDR_WEN, J19 DDR_CASN, K1 PWR_LP, K2 PDR_ON_CORE, K3 BOOT1, K17 VSS hidden, K18 DDR_CLKN, K19 VSS hidden, L1 PA14, L2 PA13, L3 PDR_ON, L17 DDR_CLKP, L18 DDR_A15, M2 PWR_ON, M3 VREF+, M17 DDR_A10, M18 DDR_A12, M19 DDR_A1, N1 VSS hidden, N2 PA3, N3 PA0, N17 VSS hidden, N18 DDR_A14, N19 DDR_A11, P1 PE2, P2 PC2, P3 PC3, P17 DDR_CKE, P18 DDR_BA1, R2 PG14, R3 PG13, R17 DDR_A4, R18 DDR_DQ8, R19 VSS hidden, T1 PA1, T2 PC1, T3 PA2, T17 DDR_A8, T18 DDR_DQ13, T19 DDR_DQ10, U1 PB1, U2 PB0, U3 PB11, U4 PC0, U5 PB10, U6 PG11, U7 PG10, U8 PD11, U9 VSS hidden, U10 PF6, U11 BYPASS_REG1V8, U12 PE8, U13 PD13, U14 PD12, U15 PA11, U16 PA10, U17 DDR_DQ14, U18 DDR_DQS1N, U19 DDR_DQ9, V1 PC5, V2 PC4, V3 PB12, V4 PB8, V5 PB5, V6 PG8, V7 PE7, V8 PF8, V9 PF9, V10 USB_DP2, V11 PG7, V12 PE10, V13 PB2, V14 USB_DP1, V15 PA12, V16 OTG_VBUS, V17 DDR_DQ15, V18 DDR_DQM1, V19 DDR_DQS1P, W1 VSS hidden, W2 PA7, W3 PA6, W4 PF11, W5 VSS hidden, W7 PF7, W8 PG9, W10 USB_DM2, W11 PB6, W13 VSS hidden, W14 USB_DM1, W16 DDR_VREF, W17 DDR_DQ12, W18 DDR_DQ11, W19 VSS hidden

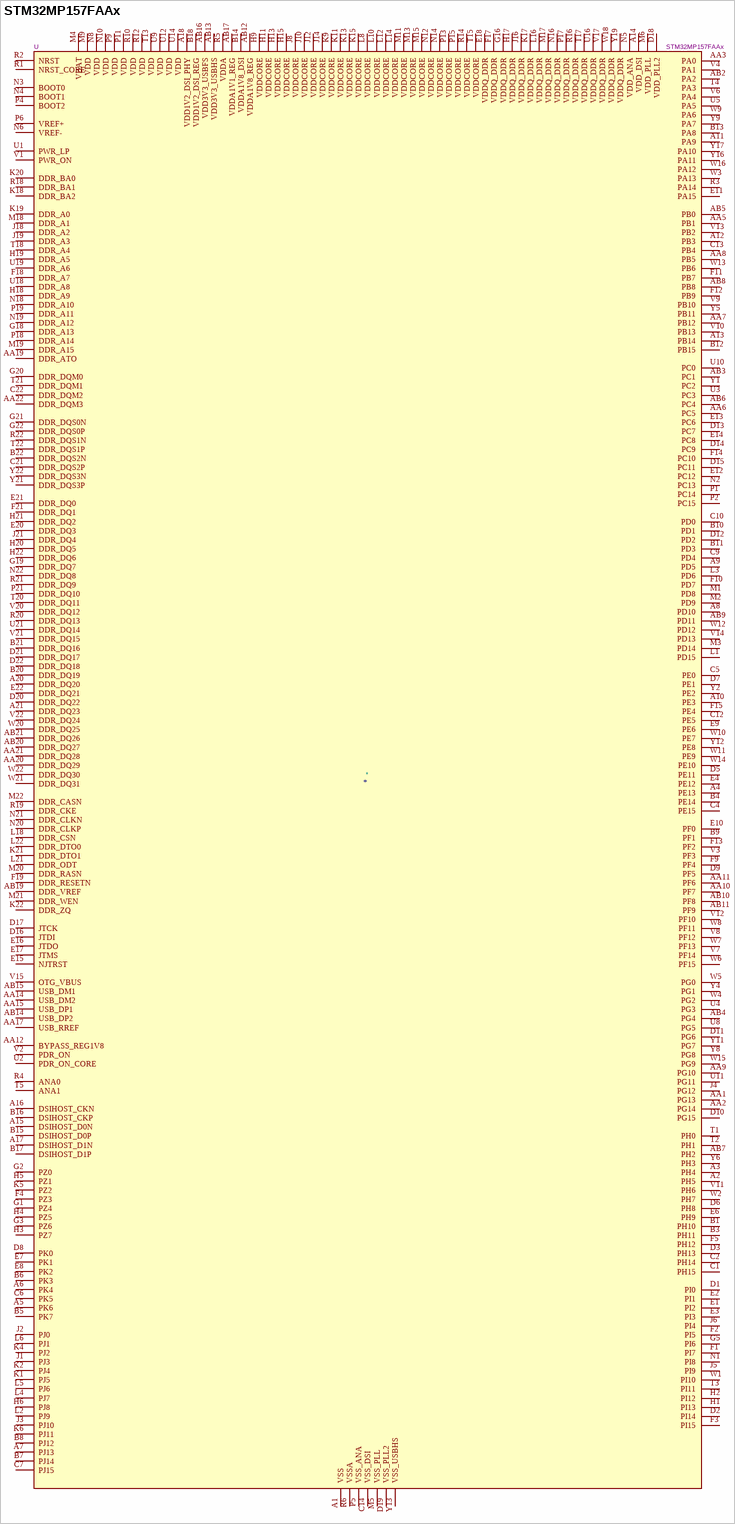
[diagram p33: symbol STM32MP157FAAx]

## STM32MP157FAAx
designator *  value STM32MP157FAAx  Reference: U
ki_keywords: Arm Cortex-A7 STM32MP1 STM32MP157; ki_description: STMicroelectronics Arm Cortex-A7 MCU, 0KB flash, 708KB RAM, 176 GPIO, LFBGA448; ki_fp_filters: *LFBGA*18x18mm*Layout22x22*P0.8mm*; Footprint: Package_BGA:ST_LFBGA-448_18x18mm_Layout22x22_P0.8mm; Datasheet: https://www.st.com/resource/en/datasheet/stm32mp157f.pdf
pins: A1 VSS, A2 PH5, A3 PH4, A4 PE13, A5 PK6, A6 PK4, A7 PJ13, A8 PD10, A9 PD5, A10 PE3, A11 PA9, A12 PB3, A13 PB14, A14 VDD_DSI, A15 DSIHOST_D0N, A16 DSIHOST_CKN, A17 DSIHOST_D1N, A18 VDD1V2_DSI_PHY, A19 VSS hidden, A20 DDR_DQ20, A21 DDR_DQ23, A22 VSS hidden, AA1 PG13, AA2 PG14, AA3 PA0, AA4 VSS hidden, AA5 PB1, AA6 PC5, AA7 PB12, AA8 PB5, AA9 PG10, AA10 PF7, AA11 PF6, AA12 BYPASS_REG1V8, AA13 VSS_USBHS hidden, AA14 USB_DM2, AA15 USB_DP1, AA16 VSS_USBHS hidden, AA17 USB_RREF, AA18 VSS hidden, AA19 DDR_ATO, AA20 DDR_DQ29, AA21 DDR_DQ28, AA22 DDR_DQM3, AB1 VSS hidden, AB2 PA2, AB3 PC1, AB4 PG4, AB5 PB0, AB6 PC4, AB7 PH2, AB8 PB8, AB9 PD11, AB10 PF8, AB11 PF9, AB12 VDDA1V8_REG, AB13 VDD3V3_USBHS, AB14 USB_DP2, AB15 USB_DM1, AB16 VDD3V3_USBFS, AB17 VDDA1V1_REG, AB18 VSS hidden, AB19 DDR_VREF, AB20 DDR_DQ27, AB21 DDR_DQ26, AB22 VSS hidden, B1 PH10, B2 VSS hidden, B3 PH11, B4 PE14, B5 PK7, B6 PK3, B7 PJ14, B8 PJ12, B9 PF1, B10 PD1, B11 PD3, B12 PB15, B13 PA8, B14 VDDA1V8_DSI, B15 DSIHOST_D0P, B16 DSIHOST_CKP, B17 DSIHOST_D1P, B18 VDD1V2_DSI_REG, B19 VSS hidden, B20 DDR_DQ19, B21 DDR_DQ16, B22 DDR_DQS2N, C1 PH15, C2 PH14, C3 VSS hidden, C4 PE15, C5 PE0, C6 PK5, C7 PJ15, C8 VSS hidden, C9 PD4, C10 PD0, C11 VSS hidden, C12 PE5, C13 PB4, C14 VSS_DSI, C15 VSS_DSI hidden, C16 VSS_DSI hidden, C17 VSS_DSI hidden, C18 VSS_DSI hidden, C19 VSS hidden, C20 VSS hidden, C21 DDR_DQS2P, C22 DDR_DQM2, D1 PI0, D2 PI14, D3 PH13, D4 VSS hidden, D5 PE11, D6 PH8, D7 PE1, D8 PK0, D9 PF5, D10 PG15, D11 PG6, D12 PD2, D13 PC7, D14 PC9, D15 PC11, D16 JTDI, D17 JTCK, D18 VDD_PLL2, D19 VSS_PLL2, D20 DDR_DQ22, D21 DDR_DQ17, D22 DDR_DQ18, E1 PI2, E2 PI1, E3 PI3, E4 PE12, E5 VSS hidden, E6 PH9, E7 PK1, E8 PK2, E9 PE6, E10 PF0, E11 PA15, E12 PC12, E13 PC6, E14 PC8, E15 NJTRST, E16 JTDO, E17 JTMS, E18 VDDQ_DDR, E19 VSS hidden, E20 DDR_DQ3, E21 DDR_DQ0, E22 DDR_DQ21, F1 PI7, F2 PI5, F3 PI15, F4 PZ3, F5 PH12, F6 VSS hidden, F7 VSS hidden, F8 VSS hidden, F9 PF4, F10 PD7, F11 PB7, F12 PB9, F13 PF2, F14 PC10, F15 PE4, F16 VSS hidden, F17 VDDQ_DDR, F18 DDR_A7, F19 DDR_RESETN, F20 VSS hidden, F21 DDR_DQ1, G1 PZ4, G2 PZ0, G3 PZ6, G4 VSS hidden, G5 PI6, G6 VSS hidden, G8 VSS hidden, G10 VSS hidden, G12 VSS hidden, G14 VSS hidden, G16 VDDQ_DDR, G17 VSS hidden, G18 DDR_A13, G19 DDR_DQ7, G20 DDR_DQM0, G21 DDR_DQS0N, G22 DDR_DQS0P, H1 PI13, H2 PI12, H3 PZ7, H4 PZ5, H5 PZ1, H6 PJ8, H7 VSS hidden, H9 VDDCORE, H11 VDDCORE, H13 VDDCORE, H15 VDDCORE, H17 VDDQ_DDR, H18 DDR_A9, H19 DDR_A5, H20 DDR_DQ5, H21 DDR_DQ2, H22 DDR_DQ6, J1 PJ3, J2 PJ0, J3 PJ10, J4 PG12, J5 PI9, J6 PI4, J8 VDDCORE, J9 VSS hidden, J10 VDDCORE, J11 VSS hidden, J12 VDDCORE, J13 VSS hidden, J14 VDDCORE, J16 VDDQ_DDR, J17 VSS hidden, J18 DDR_A2, J19 DDR_A3, J20 VSS hidden, J21 DDR_DQ4, K1 PJ5, K2 PJ4, K3 VSS hidden, K4 PJ2, K5 PZ2, K6 PJ11, K7 VSS hidden, K9 VDDCORE, K10 VSS hidden, K11 VDDCORE, K12 VSS hidden, K13 VDDCORE, K14 VSS hidden, K15 VDDCORE, K17 VDDQ_DDR, K18 DDR_BA2, K19 DDR_A0, K20 DDR_BA0, K21 DDR_DTO1, K22 DDR_ZQ, L1 PD15, L2 PJ9, L3 PD6, L4 PJ7, L5 PJ6, L6 PJ1, L8 VDDCORE, L9 VSS hidden, L10 VDDCORE, L11 VSS hidden, L12 VDDCORE, L13 VSS hidden, L14 VDDCORE, L16 VDDQ_DDR, L17 VSS hidden, L18 DDR_CSN, L19 VSS hidden, L20 VSS hidden, L21 DDR_ODT, L22 DDR_DTO0, M1 PD8, M2 PD9, M3 PD14, M4 VBAT, M5 VSS_PLL, M6 VDD_PLL, M7 VSS hidden, M9 VDD, M10 VSS hidden, M11 VDDCORE, M12 VSS hidden, M13 VDDCORE, M14 VSS hidden, M15 VDDCORE, M17 VDDQ_DDR, M18 DDR_A1, M19 DDR_A15, M20 DDR_RASN, M21 DDR_WEN, M22 DDR_CASN, N1 PI8, N2 PC13, N3 BOOT0, N4 BOOT1, N5 VDD_ANA, N6 VREF-, N8 VDD, N9 VSS hidden, N10 VDD, N11 VSS hidden, N12 VDDCORE, N13 VSS hidden, N14 VDDCORE, N16 VDDQ_DDR, N17 VSS hidden, N18 DDR_A10, N19 DDR_A12, N20 DDR_CLKP, N21 DDR_CLKN, N22 DDR_DQ8, P1 PC14, P2 PC15, P3 VSS hidden, P4 BOOT2, P5 VSS_ANA, P6 VREF+, P7 VSS hidden, P9 VDD, P10 VSS hidden, P11 VDD, P12 VSS hidden, P13 VDDCORE, P14 VSS hidden, P15 VDDCORE, P17 VDDQ_DDR, P18 DDR_A14, P19 DDR_A11, P20 VSS hidden, P21 DDR_DQ10, R1 NRST_CORE, R2 NRST, R3 PA14, R4 ANA0, R5 VDDA, R6 VSSA, R8 VSS hidden, R10 VDD, R12 VDD, R14 VDDCORE, R16 VDDQ_DDR, R17 VSS hidden, R18 DDR_BA1, R19 DDR_CKE, R20 DDR_DQ13, R21 DDR_DQ9, R22 DDR_DQS1N, T1 PH0, T2 PH1, T3 PI11, T4 PA3, T5 ANA1, T6 VSSA hidden, T7 VSS hidden, T9 VSS hidden, T11 VSS hidden, T13 VDD, T15 VDDCORE, T17 VDDQ_DDR, T18 DDR_A4, T19 VSS hidden, T20 DDR_DQ11, T21 DDR_DQM1, T22 DDR_DQS1P, U1 PWR_LP, U2 PDR_ON_CORE, U3 PC3, U4 PG3, U5 PA5, U6 VSSA hidden, U7 VSS hidden, U8 PG5, U9 VDD, U10 PC0, U11 PG11, U12 VDD, U13 VSS hidden, U14 VDD, U15 VSS hidden, U16 VDDQ_DDR, U17 VSS hidden, U18 DDR_A8, U19 DDR_A6, U20 VSS hidden, U21 DDR_DQ14, V1 PWR_ON, V2 PDR_ON, V3 PF3, V4 PA1, V5 VSS hidden, V6 PA4, V7 PF14, V8 PF12, V9 PB10, V10 PB13, V11 PH6, V12 PF10, V13 PB2, V14 PD13, V15 OTG_VBUS, V16 VSS hidden, V17 VDDQ_DDR, V18 VSS hidden, V19 VSS hidden, V20 DDR_DQ12, V21 DDR_DQ15, V22 DDR_DQ24, W1 PI10, W2 PH7, W3 PA13, W4 PG2, W5 PG0, W6 PF15, W7 PF13, W8 PF11, W9 PA6, W10 PE7, W11 PE9, W12 PD12, W13 PB6, W14 PE10, W15 PG9, W16 PA12, W17 VSS hidden, W18 VDDQ_DDR, W19 VSS hidden, W20 DDR_DQ25, W21 DDR_DQ31, W22 DDR_DQ30, Y1 PC2, Y2 PE2, Y3 VSS hidden, Y4 PG1, Y5 PB11, Y6 PH3, Y7 VSS hidden, Y8 PG8, Y9 PA7, Y10 VSS hidden, Y11 PG7, Y12 PE8, Y13 VSS_USBHS, Y14 VSS_USBHS hidden, Y15 VSS_USBHS hidden, Y16 PA11, Y17 PA10, Y18 VSS hidden, Y19 VDDQ_DDR, Y20 VSS hidden, Y21 DDR_DQS3P, Y22 DDR_DQS3N

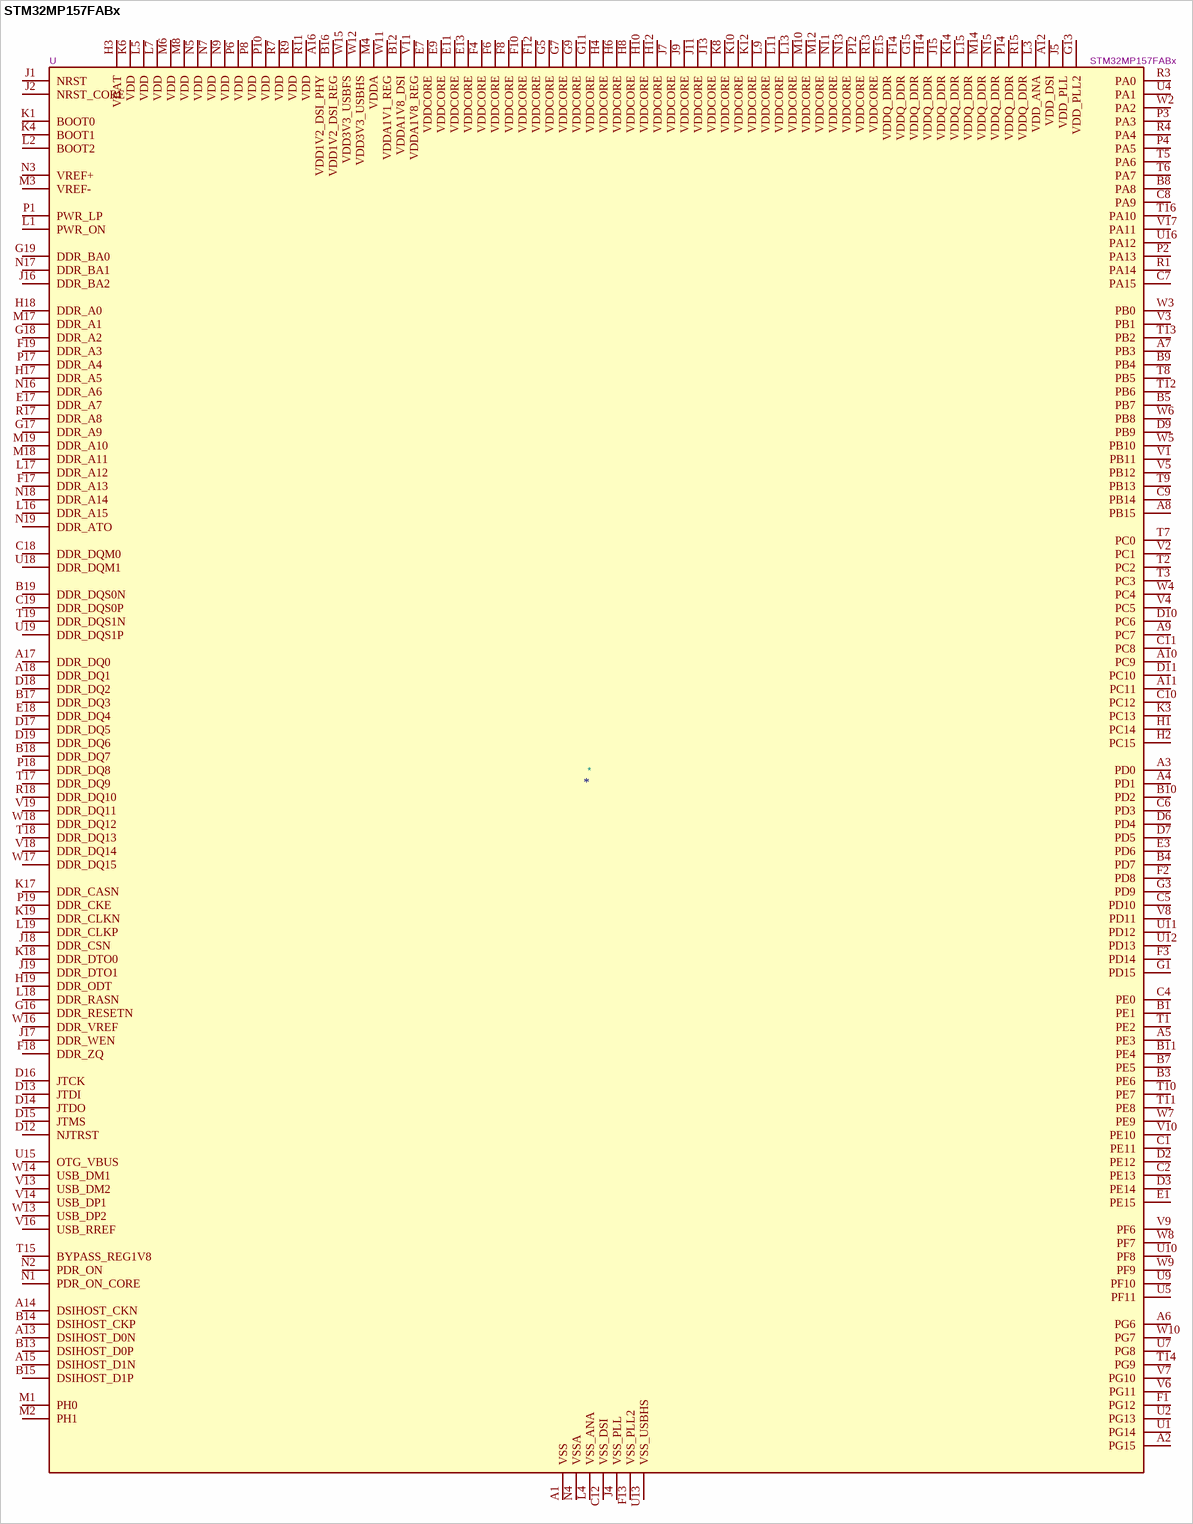
[diagram p34: symbol STM32MP157FABx]

## STM32MP157FABx
designator *  value STM32MP157FABx  Reference: U
ki_keywords: Arm Cortex-A7 STM32MP1 STM32MP157; ki_description: STMicroelectronics Arm Cortex-A7 MCU, 0KB flash, 708KB RAM, 98 GPIO, LFBGA354; ki_fp_filters: *LFBGA*16x16mm*Layout19x19*P0.8mm*; Footprint: Package_BGA:ST_LFBGA-354_16x16mm_Layout19x19_P0.8mm; Datasheet: https://www.st.com/resource/en/datasheet/stm32mp157f.pdf
pins: A1 VSS, A2 PG15, A3 PD0, A4 PD1, A5 PE3, A6 PG6, A7 PB3, A8 PB15, A9 PC7, A10 PC9, A11 PC11, A12 VDD_DSI, A13 DSIHOST_D0N, A14 DSIHOST_CKN, A15 DSIHOST_D1N, A16 VDD1V2_DSI_PHY, A17 DDR_DQ0, A18 DDR_DQ1, A19 VSS hidden, B1 PE1, B2 VSS hidden, B3 PE6, B4 PD7, B5 PB7, B6 VSS hidden, B7 PE5, B8 PA8, B9 PB4, B10 PD2, B11 PE4, B12 VDDA1V8_DSI, B13 DSIHOST_D0P, B14 DSIHOST_CKP, B15 DSIHOST_D1P, B16 VDD1V2_DSI_REG, B17 DDR_DQ3, B18 DDR_DQ7, B19 DDR_DQS0N, C1 PE11, C2 PE13, C3 VSS hidden, C4 PE0, C5 PD10, C6 PD3, C7 PA15, C8 PA9, C9 PB14, C10 PC12, C11 PC8, C12 VSS_DSI, C13 VSS_DSI hidden, C14 VSS_DSI hidden, C15 VSS_DSI hidden, C16 VSS_DSI hidden, C17 VSS hidden, C18 DDR_DQM0, C19 DDR_DQS0P, D1 VSS hidden, D2 PE12, D3 PE14, D4 VSS hidden, D5 VSS hidden, D6 PD4, D7 PD5, D8 VSS hidden, D9 PB9, D10 PC6, D11 PC10, D12 NJTRST, D13 JTDI, D14 JTDO, D15 JTMS, D16 JTCK, D17 DDR_DQ5, D18 DDR_DQ2, D19 DDR_DQ6, E1 PE15, E2 VSS hidden, E3 PD6, E4 VSS hidden, E5 VSS hidden, E6 VSS hidden, E7 VDDCORE, E8 VSS hidden, E9 VDDCORE, E10 VSS hidden, E11 VDDCORE, E12 VSS hidden, E13 VDDCORE, E14 VSS hidden, E15 VDDQ_DDR, E16 VSS hidden, E17 DDR_A7, E18 DDR_DQ4, F1 PG12, F2 PD8, F3 PD14, F4 VDDCORE, F5 VSS hidden, F6 VDDCORE, F7 VSS hidden, F8 VDDCORE, F9 VSS hidden, F10 VDDCORE, F11 VSS hidden, F12 VDDCORE, F13 VSS_PLL2, F14 VDDQ_DDR, F15 VSS hidden, F17 DDR_A13, F18 DDR_ZQ, F19 DDR_A3, G1 PD15, G2 VSS hidden, G3 PD9, G4 VSS hidden, G5 VDDCORE, G6 VSS hidden, G7 VDDCORE, G8 VSS hidden, G9 VDDCORE, G10 VSS hidden, G11 VDDCORE, G12 VSS hidden, G13 VDD_PLL2, G14 VSS hidden, G15 VDDQ_DDR, G16 DDR_RESETN, G17 DDR_A9, G18 DDR_A2, G19 DDR_BA0, H1 PC14, H2 PC15, H3 VBAT, H4 VDDCORE, H5 VSS hidden, H6 VDDCORE, H7 VSS hidden, H8 VDDCORE, H9 VSS hidden, H10 VDDCORE, H11 VSS hidden, H12 VDDCORE, H13 VSS hidden, H14 VDDQ_DDR, H15 VSS hidden, H17 DDR_A5, H18 DDR_A0, H19 DDR_ODT, J1 NRST, J2 NRST_CORE, J3 VSS hidden, J4 VSS_PLL, J5 VDD_PLL, J6 VSS hidden, J7 VDDCORE, J8 VSS hidden, J9 VDDCORE, J10 VSS hidden, J11 VDDCORE, J12 VSS hidden, J13 VDDCORE, J14 VSS hidden, J15 VDDQ_DDR, J16 DDR_BA2, J17 DDR_WEN, J18 DDR_CSN, J19 DDR_DTO1, K1 BOOT0, K2 VSS hidden, K3 PC13, K4 BOOT1, K5 VSS hidden, K6 VDD, K7 VSS hidden, K8 VDDCORE, K9 VSS hidden, K10 VDDCORE, K11 VSS hidden, K12 VDDCORE, K13 VSS hidden, K14 VDDQ_DDR, K15 VSS hidden, K17 DDR_CASN, K18 DDR_DTO0, K19 DDR_CLKN, L1 PWR_ON, L2 BOOT2, L3 VDD_ANA, L4 VSS_ANA, L5 VDD, L6 VSS hidden, L7 VDD, L8 VSS hidden, L9 VDDCORE, L10 VSS hidden, L11 VDDCORE, L12 VSS hidden, L13 VDDCORE, L14 VSS hidden, L15 VDDQ_DDR, L16 DDR_A15, L17 DDR_A12, L18 DDR_RASN, L19 DDR_CLKP, M1 PH0, M2 PH1, M3 VREF-, M4 VDDA, M5 VSS hidden, M6 VDD, M7 VSS hidden, M8 VDD, M9 VSS hidden, M10 VDDCORE, M11 VSS hidden, M12 VDDCORE, M13 VSS hidden, M14 VDDQ_DDR, M15 VSS hidden, M17 DDR_A1, M18 DDR_A11, M19 DDR_A10, N1 PDR_ON_CORE, N2 PDR_ON, N3 VREF+, N4 VSSA, N5 VDD, N6 VSS hidden, N7 VDD, N8 VSS hidden, N9 VDD, N10 VSS hidden, N11 VDDCORE, N12 VSS hidden, N13 VDDCORE, N14 VSS hidden, N15 VDDQ_DDR, N16 DDR_A6, N17 DDR_BA1, N18 DDR_A14, N19 DDR_ATO, P1 PWR_LP, P2 PA13, P3 PA3, P4 PA5, P5 VSSA hidden, P6 VDD, P7 VSS hidden, P8 VDD, P9 VSS hidden, P10 VDD, P11 VSS hidden, P12 VDDCORE, P13 VSS hidden, P14 VDDQ_DDR, P15 VSS hidden, P17 DDR_A4, P18 DDR_DQ8, P19 DDR_CKE, R1 PA14, R2 VSS hidden, R3 PA0, R4 PA4, R5 VSSA hidden, R6 VSS hidden, R7 VDD, R8 VSS hidden, R9 VDD, R10 VSS hidden, R11 VDD, R12 VSS hidden, R13 VDDCORE, R14 VSS hidden, R15 VDDQ_DDR, R16 VSS hidden, R17 DDR_A8, R18 DDR_DQ10, T1 PE2, T2 PC2, T3 PC3, T4 VSS hidden, T5 PA6, T6 PA7, T7 PC0, T8 PB5, T9 PB13, T10 PE7, T11 PE8, T12 PB6, T13 PB2, T14 PG9, T15 BYPASS_REG1V8, T16 PA10, T17 DDR_DQ9, T18 DDR_DQ13, T19 DDR_DQS1N, U1 PG14, U2 PG13, U3 VSS hidden, U4 PA1, U5 PF11, U6 VSS hidden, U7 PG8, U8 VSS hidden, U9 PF10, U10 PF8, U11 PD12, U12 PD13, U13 VSS_USBHS, U14 VSS_USBHS hidden, U15 OTG_VBUS, U16 PA12, U17 VSS hidden, U18 DDR_DQM1, U19 DDR_DQS1P, V1 PB11, V2 PC1, V3 PB1, V4 PC5, V5 PB12, V6 PG11, V7 PG10, V8 PD11, V9 PF6, V10 PE10, V11 VDDA1V8_REG, V12 VSS_USBHS hidden, V13 USB_DM2, V14 USB_DP1, V15 VSS_USBHS hidden, V16 USB_RREF, V17 PA11, V18 DDR_DQ14, V19 DDR_DQ11, W1 VSS hidden, W2 PA2, W3 PB0, W4 PC4, W5 PB10, W6 PB8, W7 PE9, W8 PF7, W9 PF9, W10 PG7, W11 VDDA1V1_REG, W12 VDD3V3_USBHS, W13 USB_DP2, W14 USB_DM1, W15 VDD3V3_USBFS, W16 DDR_VREF, W17 DDR_DQ15, W18 DDR_DQ12, W19 VSS hidden

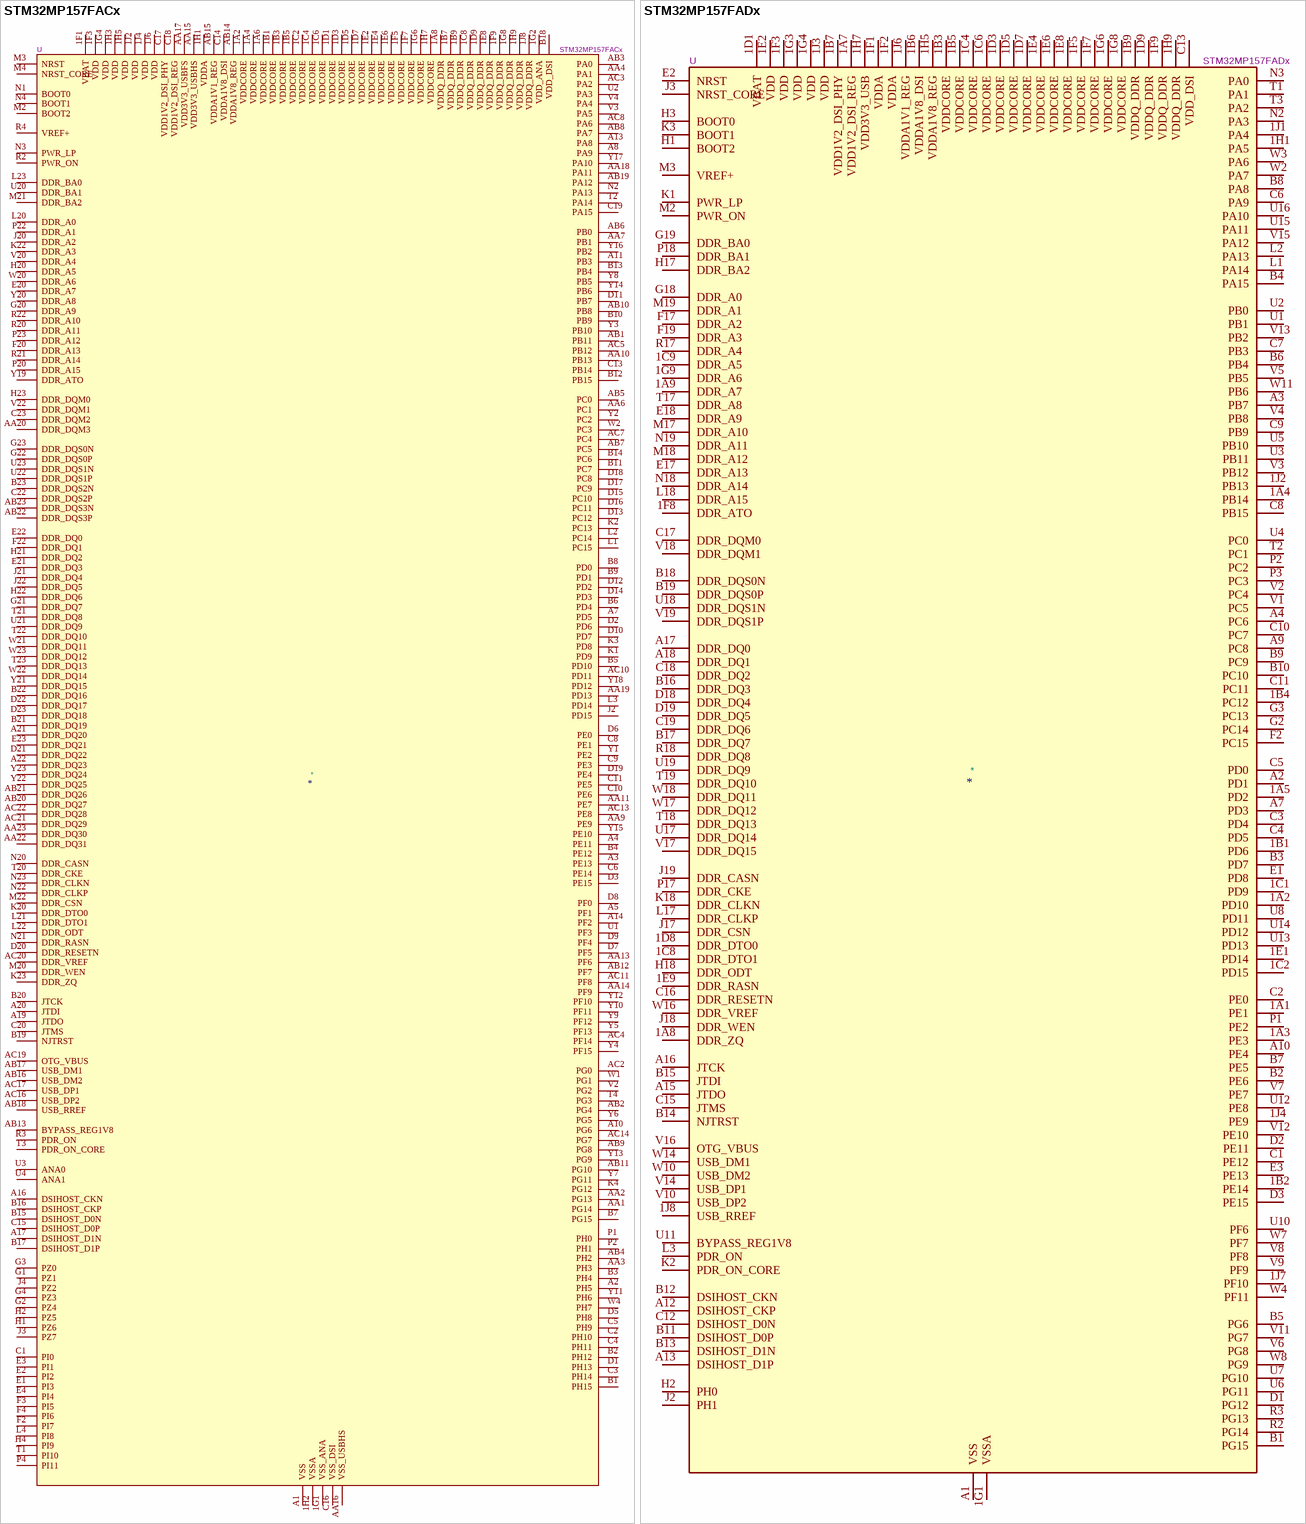
[diagram p35: symbols STM32MP157FACx to STM32MP157FADx]

## STM32MP157FACx
designator *  value STM32MP157FACx  Reference: U
ki_keywords: Arm Cortex-A7 STM32MP1 STM32MP157; ki_description: STMicroelectronics Arm Cortex-A7 MCU, 0KB flash, 708KB RAM, 148 GPIO, TFBGA361; ki_fp_filters: *TFBGA*12x12mm*Layout23x23*P0.5mmP0.65mm*; Footprint: Package_BGA:ST_TFBGA-361_12x12mm_Layout23x23_P0.5mmP0.65mm; Datasheet: https://www.st.com/resource/en/datasheet/stm32mp157f.pdf
pins: 1A2 VDDCORE, 1A3 VSS hidden, 1A4 VDDCORE, 1A5 VSS hidden, 1A6 VDDCORE, 1A7 VSS hidden, 1A8 VDDQ_DDR, 1B1 VDDCORE, 1B2 VSS hidden, 1B3 VDDCORE, 1B4 VSS hidden, 1B5 VDDCORE, 1B6 VSS hidden, 1B7 VDDQ_DDR, 1B8 VSS hidden, 1B9 VDDQ_DDR, 1C1 VSS hidden, 1C2 VDDCORE, 1C3 VSS hidden, 1C4 VDDCORE, 1C5 VSS hidden, 1C6 VDDCORE, 1C7 VSS hidden, 1C8 VDDQ_DDR, 1C9 VSS hidden, 1D1 VDDCORE, 1D2 VSS hidden, 1D3 VDDCORE, 1D4 VSS hidden, 1D5 VDDCORE, 1D6 VSS hidden, 1D7 VDDCORE, 1D8 VSS hidden, 1D9 VDDQ_DDR, 1E1 VSS hidden, 1E2 VDDCORE, 1E3 VSS hidden, 1E4 VDDCORE, 1E5 VSS hidden, 1E6 VDDCORE, 1E7 VSS hidden, 1E8 VDDQ_DDR, 1E9 VSS hidden, 1F1 VBAT, 1F2 VSS hidden, 1F3 VDD, 1F4 VSS hidden, 1F5 VDDCORE, 1F6 VSS hidden, 1F7 VDDCORE, 1F8 VSS hidden, 1F9 VDDQ_DDR, 1G1 VSS_ANA, 1G2 VDD_ANA, 1G3 VSS hidden, 1G4 VDD, 1G5 VSS hidden, 1G6 VDDCORE, 1G7 VSS hidden, 1G8 VDDQ_DDR, 1G9 VSS hidden, 1H1 VDDA, 1H2 VSSA, 1H3 VDD, 1H4 VSS hidden, 1H5 VDD, 1H6 VSS hidden, 1H7 VDDCORE, 1H8 VSS hidden, 1H9 VDDQ_DDR, 1J2 VDD, 1J3 VSS hidden, 1J4 VDD, 1J5 VSS hidden, 1J6 VDD, 1J7 VSS hidden, 1J8 VDDQ_DDR, A1 VSS, A2 PH5, A3 PE13, A4 PE11, A5 PF1, A7 PD5, A8 PA9, A10 PG6, A11 PB3, A13 PA8, A14 PF2, A16 DSIHOST_CKN, A17 DSIHOST_D1N, A19 JTDO, A20 JTDI, A21 DDR_DQ20, A22 DDR_DQ23, A23 VSS hidden, AA1 PG14, AA2 PG13, AA3 PH3, AA4 PA1, AA5 VSS hidden, AA6 PC1, AA7 PB1, AA8 VSS hidden, AA9 PE9, AA10 PB13, AA11 PE7, AA12 VSS hidden, AA13 PF6, AA14 PF9, AA15 VDD3V3_USBHS, AA16 VSS_USBHS, AA17 VDD3V3_USBFS, AA18 PA11, AA19 PD13, AA20 DDR_DQM3, AA21 VSS hidden, AA22 DDR_DQ31, AA23 DDR_DQ30, AB1 PB11, AB2 PG4, AB3 PA0, AB4 PH2, AB5 PC0, AB6 PB0, AB7 PC5, AB8 PA7, AB9 PG8, AB10 PB8, AB11 PG10, AB12 PF7, AB13 BYPASS_REG1V8, AB14 VDDA1V8_REG, AB15 VDDA1V1_REG, AB16 USB_DM2, AB17 USB_DM1, AB18 USB_RREF, AB19 PA12, AB20 DDR_DQ27, AB21 DDR_DQ26, AB22 DDR_DQS3P, AB23 DDR_DQS3N, AC1 VSS hidden, AC2 PG0, AC3 PA2, AC4 PF14, AC5 PB12, AC7 PC4, AC8 PA6, AC10 PD11, AC11 PF8, AC13 PE8, AC14 PG7, AC16 USB_DP2, AC17 USB_DP1, AC19 OTG_VBUS, AC20 DDR_VREF, AC21 DDR_DQ29, AC22 DDR_DQ28, AC23 VSS hidden, B1 PH15, B2 PH12, B3 PH4, B4 PE12, B5 PD10, B6 PD4, B7 PG15, B8 PD0, B9 PD1, B10 PB9, B11 PC7, B12 PB15, B13 PB4, B14 PC6, B15 DSIHOST_D0N, B16 DSIHOST_CKP, B17 DSIHOST_D1P, B18 VDD_DSI, B19 NJTRST, B20 JTCK, B21 DDR_DQ19, B22 DDR_DQ16, B23 DDR_DQS2N, C1 PI0, C2 PH10, C3 PH14, C4 PH11, C5 PH9, C6 PE14, C7 VSS hidden, C8 PE1, C9 PE3, C10 PE6, C11 PE5, C12 VSS hidden, C13 PB14, C14 VDDA1V8_DSI, C15 DSIHOST_D0P, C16 VSS_DSI, C17 VDD1V2_DSI_PHY, C18 VDD1V2_DSI_REG, C19 PA15, C20 JTMS, C21 VSS hidden, C22 DDR_DQS2P, C23 DDR_DQM2, D1 PH13, D2 PD6, D3 PE15, D4 VSS hidden, D5 PH8, D6 PE0, D7 PF5, D8 PF0, D9 PF4, D10 PD7, D11 PB7, D12 PD2, D13 PC12, D14 PD3, D15 PC10, D16 PC11, D17 PC9, D18 PC8, D19 PE4, D20 DDR_RESETN, D21 DDR_DQ22, D22 DDR_DQ17, D23 DDR_DQ18, E1 PI3, E2 PI2, E3 PI1, E4 PI4, E20 DDR_A7, E21 DDR_DQ3, E22 DDR_DQ0, E23 DDR_DQ21, F2 PI7, F3 PI5, F4 PI6, F20 DDR_A13, F21 VSS hidden, F22 DDR_DQ1, G1 PZ1, G2 PZ4, G3 PZ0, G4 PZ3, G20 DDR_A9, G21 DDR_DQ7, G22 DDR_DQS0P, G23 DDR_DQS0N, H1 PZ6, H2 PZ5, H3 VSS hidden, H4 PI9, H20 DDR_A5, H21 DDR_DQ2, H22 DDR_DQ6, H23 DDR_DQM0, J2 PD15, J3 PZ7, J4 PZ2, J20 DDR_A2, J21 DDR_DQ4, J22 DDR_DQ5, K1 PD9, K2 PC13, K3 PD8, K4 PG12, K20 DDR_DTO0, K21 VSS hidden, K22 DDR_A3, K23 DDR_ZQ, L1 PC15, L2 PC14, L3 PD14, L4 PI8, L20 DDR_A0, L21 DDR_DTO1, L22 DDR_ODT, L23 DDR_BA0, M2 BOOT2, M3 NRST, M4 NRST_CORE, M20 DDR_WEN, M21 DDR_BA2, M22 DDR_CSN, N1 BOOT0, N2 PA13, N3 PWR_LP, N4 BOOT1, N20 DDR_CASN, N21 DDR_RASN, N22 DDR_CLKP, N23 DDR_CLKN, P1 PH0, P2 PH1, P3 VSS hidden, P4 PI11, P20 DDR_A15, P21 VSS hidden, P22 DDR_A1, P23 DDR_A12, R2 PWR_ON, R3 PDR_ON, R4 VREF+, R20 DDR_A11, R21 DDR_A14, R22 DDR_A10, T1 PI10, T2 PA14, T3 PDR_ON_CORE, T4 PG3, T20 DDR_CKE, T21 DDR_DQ8, T22 DDR_DQ10, T23 DDR_DQ13, U1 PF3, U2 PA3, U3 ANA0, U4 ANA1, U20 DDR_BA1, U21 DDR_DQ9, U22 DDR_DQS1P, U23 DDR_DQS1N, V2 PG2, V3 PA5, V4 PA4, V20 DDR_A4, V21 VSS hidden, V22 DDR_DQM1, W1 PG1, W2 PC3, W3 VSS hidden, W4 PH7, W20 DDR_A6, W21 DDR_DQ11, W22 DDR_DQ14, W23 DDR_DQ12, Y1 PE2, Y2 PC2, Y3 PB10, Y4 PF15, Y5 PF13, Y6 PG5, Y7 PG11, Y8 PB5, Y9 PF12, Y10 PF11, Y11 PH6, Y12 PF10, Y13 PG9, Y14 PB6, Y15 PE10, Y16 PB2, Y17 PA10, Y18 PD12, Y19 DDR_ATO, Y20 DDR_A8, Y21 DDR_DQ15, Y22 DDR_DQ25, Y23 DDR_DQ24

## STM32MP157FADx
designator *  value STM32MP157FADx  Reference: U
ki_keywords: Arm Cortex-A7 STM32MP1 STM32MP157; ki_description: STMicroelectronics Arm Cortex-A7 MCU, 0KB flash, 708KB RAM, 98 GPIO, TFBGA257; ki_fp_filters: *TFBGA*10x10mm*Layout19x19*P0.5mmP0.65mm*; Footprint: Package_BGA:ST_TFBGA-257_10x10mm_Layout19x19_P0.5mmP0.65mm; Datasheet: https://www.st.com/resource/en/datasheet/stm32mp157f.pdf
pins: 1A1 PE1, 1A2 PD10, 1A3 PE3, 1A4 PB14, 1A5 PD2, 1A6 VSS hidden, 1A7 VDD1V2_DSI_REG, 1A8 DDR_ZQ, 1A9 DDR_A7, 1B1 PD6, 1B2 PE14, 1B3 VDDCORE, 1B4 PC12, 1B5 VDDCORE, 1B6 VDDA1V8_DSI, 1B7 VDD1V2_DSI_PHY, 1B8 VSS hidden, 1B9 VDDQ_DDR, 1C1 PD9, 1C2 PD15, 1C3 VSS hidden, 1C4 VDDCORE, 1C5 VSS hidden, 1C6 VDDCORE, 1C7 VSS hidden, 1C8 DDR_DTO1, 1C9 DDR_A5, 1D1 VBAT, 1D2 VSS hidden, 1D3 VDDCORE, 1D4 VSS hidden, 1D5 VDDCORE, 1D6 VSS hidden, 1D7 VDDCORE, 1D8 DDR_DTO0, 1D9 VDDQ_DDR, 1E1 PD14, 1E2 VDD, 1E3 VSS hidden, 1E4 VDDCORE, 1E5 VSS hidden, 1E6 VDDCORE, 1E7 VSS hidden, 1E8 VDDCORE, 1E9 DDR_RASN, 1F1 VDDA, 1F2 VDDA, 1F3 VDD, 1F4 VSS hidden, 1F5 VDDCORE, 1F6 VSS hidden, 1F7 VDDCORE, 1F8 DDR_ATO, 1F9 VDDQ_DDR, 1G1 VSSA, 1G2 VSS hidden, 1G3 VDD, 1G4 VDD, 1G5 VSS hidden, 1G6 VDDCORE, 1G7 VSS hidden, 1G8 VDDCORE, 1G9 DDR_A6, 1H1 PA5, 1H2 VSS hidden, 1H3 VSS hidden, 1H4 VSS hidden, 1H5 VDDA1V8_REG, 1H6 VSS hidden, 1H7 VDD3V3_USB, 1H8 VSS hidden, 1H9 VDDQ_DDR, 1J1 PA4, 1J2 PB13, 1J3 VDD, 1J4 PE9, 1J5 VSS hidden, 1J6 VDDA1V1_REG, 1J7 PF10, 1J8 USB_RREF, 1J9 VSS hidden, A1 VSS, A2 PD1, A3 PB7, A4 PC6, A6 VSS hidden, A7 PD3, A9 PC8, A10 PE4, A12 DSIHOST_CKP, A13 DSIHOST_D1P, A15 JTDO, A16 JTCK, A17 DDR_DQ0, A18 DDR_DQ1, A19 VSS hidden, B1 PG15, B2 PE6, B3 PD7, B4 PA15, B5 PG6, B6 PB4, B7 PE5, B8 PA8, B9 PC9, B10 PC10, B11 DSIHOST_D0P, B12 DSIHOST_CKN, B13 DSIHOST_D1N, B14 NJTRST, B15 JTDI, B16 DDR_DQ3, B17 DDR_DQ7, B18 DDR_DQS0N, B19 DDR_DQS0P, C1 PE12, C2 PE0, C3 PD4, C4 PD5, C5 PD0, C6 PA9, C7 PB3, C8 PB15, C9 PB9, C10 PC7, C11 PC11, C12 DSIHOST_D0N, C13 VDD_DSI, C14 VSS hidden, C15 JTMS, C16 DDR_RESETN, C17 DDR_DQM0, C18 DDR_DQ2, C19 DDR_DQ6, D1 PG12, D2 PE11, D3 PE15, D17 VSS hidden, D18 DDR_DQ4, D19 DDR_DQ5, E1 PD8, E2 NRST, E3 PE13, E17 DDR_A13, E18 DDR_A9, F2 PC15, F3 VSS hidden, F17 DDR_A2, F18 VSS hidden, F19 DDR_A3, G1 VSS hidden, G2 PC14, G3 PC13, G17 VSS hidden, G18 DDR_A0, G19 DDR_BA0, H1 BOOT2, H2 PH0, H3 BOOT0, H17 DDR_BA2, H18 DDR_ODT, J2 PH1, J3 NRST_CORE, J17 DDR_CSN, J18 DDR_WEN, J19 DDR_CASN, K1 PWR_LP, K2 PDR_ON_CORE, K3 BOOT1, K17 VSS hidden, K18 DDR_CLKN, K19 VSS hidden, L1 PA14, L2 PA13, L3 PDR_ON, L17 DDR_CLKP, L18 DDR_A15, M2 PWR_ON, M3 VREF+, M17 DDR_A10, M18 DDR_A12, M19 DDR_A1, N1 VSS hidden, N2 PA3, N3 PA0, N17 VSS hidden, N18 DDR_A14, N19 DDR_A11, P1 PE2, P2 PC2, P3 PC3, P17 DDR_CKE, P18 DDR_BA1, R2 PG14, R3 PG13, R17 DDR_A4, R18 DDR_DQ8, R19 VSS hidden, T1 PA1, T2 PC1, T3 PA2, T17 DDR_A8, T18 DDR_DQ13, T19 DDR_DQ10, U1 PB1, U2 PB0, U3 PB11, U4 PC0, U5 PB10, U6 PG11, U7 PG10, U8 PD11, U9 VSS hidden, U10 PF6, U11 BYPASS_REG1V8, U12 PE8, U13 PD13, U14 PD12, U15 PA11, U16 PA10, U17 DDR_DQ14, U18 DDR_DQS1N, U19 DDR_DQ9, V1 PC5, V2 PC4, V3 PB12, V4 PB8, V5 PB5, V6 PG8, V7 PE7, V8 PF8, V9 PF9, V10 USB_DP2, V11 PG7, V12 PE10, V13 PB2, V14 USB_DP1, V15 PA12, V16 OTG_VBUS, V17 DDR_DQ15, V18 DDR_DQM1, V19 DDR_DQS1P, W1 VSS hidden, W2 PA7, W3 PA6, W4 PF11, W5 VSS hidden, W7 PF7, W8 PG9, W10 USB_DM2, W11 PB6, W13 VSS hidden, W14 USB_DM1, W16 DDR_VREF, W17 DDR_DQ12, W18 DDR_DQ11, W19 VSS hidden